# Altium schematic symbol library Pt1000.Schlib: 1 symbol
Pins are listed as number, name and electrical type; pins without a type are passive.

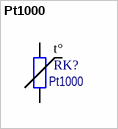
[diagram p0: symbol Pt1000]

## Pt1000
designator RK?
Платиновый термометр сопротивления; Value: 1000; Потребление, Вт: 0,001; Назначение: Термометр сопротивления; ComponentLink1Description: DataSheet; ComponentLink1URL: https://ru.mouser.com/datasheet/2/619/M310_HST-USA-1131966.pdf; Наименование: Pt1000
footprint Pt1000_9.5x1.9
footprint Pt1000_3.0x1.0
pins: 1, 2
text: t°